# Altium footprint library magnetic.PcbLib: 4 footprints
Each footprint in its own frame and in the unit in brackets; x right, y up, seen from the top. Pads: shape width x height; smd on the part's side, far side on the other; paste and mask are expansions set on the pad; w line width, h text height; cw(c..) or ccw(c..) is an arc to the next point about the centre after c.
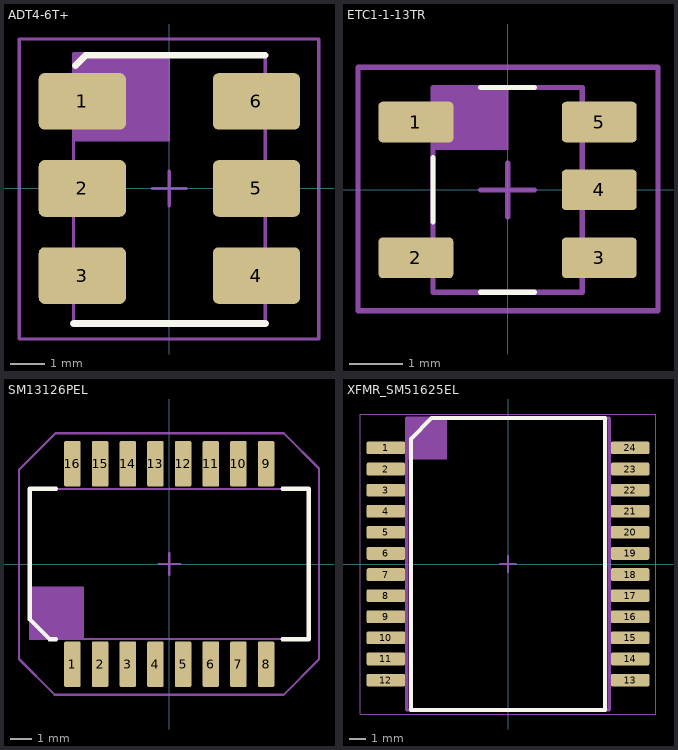
[diagram p0: the footprints below, top view; thin cyan lines are the x and y axes]

## ADT4-6T+ [mm]
pads (6):
  rrect20% 2.54x1.65 smd: 1(-2.54,2.54) 2(-2.54,0) 3(-2.54,-2.54) 4(2.54,-2.54) 5(2.54,0) 6(2.54,2.54)
Top Overlay:
  lines w0.2: -2.8,-3.935 2.8,-3.935 ; -2.736,3.588 -2.449,3.877 2.795,3.887
Top Designator:
  text ".Designator" at -2.824,4.875 h0.6
Top Assembly:
  rectangle: -2.76,1.375 0.025,3.91
  lines w0.1: -2.803,-2.938 -3.386,-2.938 -3.386,-2.063 -2.803,-2.063 ; -2.803,-0.398 -3.386,-0.398 -3.386,0.477 -2.803,0.477 ; -2.803,2.142 -3.386,2.142 -3.386,3.017 -2.803,3.017 ; 2.803,-3.017 3.386,-3.017 3.386,-2.142 2.803,-2.142 ; 2.803,-0.477 3.386,-0.477 3.386,0.398 2.803,0.398 ; 2.803,2.063 3.386,2.063 3.386,2.938 2.803,2.938 ; -2.795,-3.935 2.795,-3.935 2.795,3.935 -2.795,3.935 -2.795,-3.935
Top Courtyard:
  lines w0.1: -0.5,0 0.5,0 ; 0,-0.5 0,0.5 ; -4.375,-4.391 4.355,-4.391 4.355,4.36 -4.375,4.36 -4.375,-4.391
3D body "ADT4-6WT+.stp": height 4.11, standoff 0, extent -3.455,-3.935 3.455,3.935

## ETC1-1-13TR [mm]
pads (5):
  rrect20% 1.4x0.76 smd: 1(-1.715,1.27) 2(-1.715,-1.27) 3(1.715,-1.27) 4(1.715,0) 5(1.715,1.27)
Top Overlay:
  lines w0.1: -1.395,-0.6 -1.395,0.6 ; -0.5,-1.915 0.5,-1.915 ; -0.5,1.915 0.5,1.915
Top Designator:
  text ".Designator" at -3.113,2.751 h0.6
Top Assembly:
  rectangle: -1.41,0.748 0.016,1.91
  lines w0.1: -1.4,-1.445 -1.843,-1.445 -1.843,-1.118 -1.4,-1.118 ; -1.4,1.095 -1.843,1.095 -1.843,1.422 -1.4,1.422 ; 1.4,-1.422 1.843,-1.422 1.843,-1.095 1.4,-1.095 ; 1.4,-0.152 1.843,-0.152 1.843,0.175 1.4,0.175 ; 1.4,1.118 1.843,1.118 1.843,1.445 1.4,1.445 ; -1.395,-1.915 -1.395,1.915 1.395,1.915 1.395,-1.915 -1.395,-1.915
Top Courtyard:
  lines w0.1: -0.5,0 0.5,0 ; 0,-0.5 0,0.5 ; -2.798,-2.262 2.814,-2.262 2.814,2.296 -2.798,2.296 -2.798,-2.262
3D body "ETC1-1T-2TR.stp": height 2.6, standoff 0, extent -1.905,-1.91 1.905,1.91

## SM13126PEL [mm]
pads (16):
  rrect20% 0.76x2.1 smd: 1(-4.445,-4.6) 2(-3.175,-4.6) 3(-1.905,-4.6) 4(-0.635,-4.6) 5(0.635,-4.6) 6(1.905,-4.6) 7(3.175,-4.6) 8(4.445,-4.6) 9(4.445,4.6) 10(3.175,4.6) 11(1.905,4.6) 12(0.635,4.6) 13(-0.635,4.6) 14(-1.905,4.6) 15(-3.175,4.6) 16(-4.445,4.6)
Top Overlay:
  lines w0.2: -5.2,-3.45 -5.5,-3.45 -6.4,-2.55 -6.4,3.45 -5.2,3.45 ; 5.2,-3.45 6.4,-3.45 6.4,3.45 5.2,3.45
Top Designator:
  text ".Designator" at -5.024,6.525 h0.6
Top Assembly:
  rectangle: -6.41,-3.445 -3.925,-1.025
  lines w0.1: -6.4,-3.45 -6.4,3.45 6.4,3.45 6.4,-3.45 -6.4,-3.45
Top Courtyard:
  lines w0.1: -0.5,0 0.5,0 ; 0,-0.5 0,0.5 ; -6.9,-4.364 -6.9,4.325 -5.225,6 5.257,6 6.875,4.382 6.875,-4.375 5.25,-6 -5.264,-6 -6.9,-4.364
3D body "SM13126PEL.stp": height 6.15, standoff 0, extent -6.655,-4.902 6.655,4.902

## XFMR_SM51625EL [mm]
pads (24):
  rrect20% 2.3x0.76 smd: 1(-7.35,6.985) 2(-7.35,5.715) 3(-7.35,4.445) 4(-7.35,3.175) 5(-7.35,1.905) 6(-7.35,0.635) 7(-7.35,-0.635) 8(-7.35,-1.905) 9(-7.35,-3.175) 10(-7.35,-4.445) 11(-7.35,-5.715) 12(-7.35,-6.985) 13(7.35,-6.985) 14(7.35,-5.715) 15(7.35,-4.445) 16(7.35,-3.175) 17(7.35,-1.905) 18(7.35,-0.635) 19(7.35,0.635) 20(7.35,1.905) 21(7.35,3.175) 22(7.35,4.445) 23(7.35,5.715) 24(7.35,6.985)
Top Overlay:
  lines w0.25: -5.842,-8.775 5.842,-8.775 5.842,8.775 -4.6,8.775 -5.842,7.533 -5.842,-8.775
Top Designator:
  text ".Designator" at -3.024,9.425 h0.6
Top Assembly:
  rectangle: -6.035,6.3 -3.675,8.71
  lines w0.15: -6.1,-7.25 -7.93,-7.25 -7.93,-6.72 -6.1,-6.72 ; -6.1,-5.98 -7.93,-5.98 -7.93,-5.45 -6.1,-5.45 ; -6.1,-4.71 -7.93,-4.71 -7.93,-4.18 -6.1,-4.18 ; -6.1,-3.44 -7.93,-3.44 -7.93,-2.91 -6.1,-2.91 ; -6.1,-2.17 -7.93,-2.17 -7.93,-1.64 -6.1,-1.64 ; -6.1,-0.9 -7.93,-0.9 -7.93,-0.37 -6.1,-0.37 ; -6.1,0.37 -7.93,0.37 -7.93,0.9 -6.1,0.9 ; -6.1,1.64 -7.93,1.64 -7.93,2.17 -6.1,2.17 ; -6.1,2.91 -7.93,2.91 -7.93,3.44 -6.1,3.44 ; -6.1,4.18 -7.93,4.18 -7.93,4.71 -6.1,4.71 ; -6.1,5.45 -7.93,5.45 -7.93,5.98 -6.1,5.98 ; -6.1,6.72 -7.93,6.72 -7.93,7.25 -6.1,7.25 ; 6.1,-7.25 7.93,-7.25 7.93,-6.72 6.1,-6.72 ; 6.1,-5.98 7.93,-5.98 7.93,-5.45 6.1,-5.45 ; 6.1,-4.71 7.93,-4.71 7.93,-4.18 6.1,-4.18 ; 6.1,-3.44 7.93,-3.44 7.93,-2.91 6.1,-2.91 ; 6.1,-2.17 7.93,-2.17 7.93,-1.64 6.1,-1.64 ; 6.1,-0.9 7.93,-0.9 7.93,-0.37 6.1,-0.37 ; 6.1,0.37 7.93,0.37 7.93,0.9 6.1,0.9 ; 6.1,1.64 7.93,1.64 7.93,2.17 6.1,2.17 ; 6.1,2.91 7.93,2.91 7.93,3.44 6.1,3.44 ; 6.1,4.18 7.93,4.18 7.93,4.71 6.1,4.71 ; 6.1,5.45 7.93,5.45 7.93,5.98 6.1,5.98 ; 6.1,6.72 7.93,6.72 7.93,7.25 6.1,7.25
  lines w0.2: -6.096,-8.775 6.1,-8.775 6.1,8.775 -6.096,8.775 -6.096,-8.775
Top Courtyard:
  lines w0.05: -8.875,-9.025 -8.875,9.025 8.875,9.025 8.875,-9.025 -8.875,-9.025
  lines w0.1: -0.5,0 0.5,0 ; 0,-0.5 0,0.5
3D body "step_temp.STEP": height 6.25, standoff 0, extent -8,-8.775 8,8.775